# Altium footprint library 1_1123723_3.PcbLib: 1 footprints
Each footprint in its own frame and in the unit in brackets; x right, y up, seen from the top. Pads: shape width x height; smd on the part's side, far side on the other; paste and mask are expansions set on the pad; w line width, h text height; cw(c..) or ccw(c..) is an arc to the next point about the centre after c.
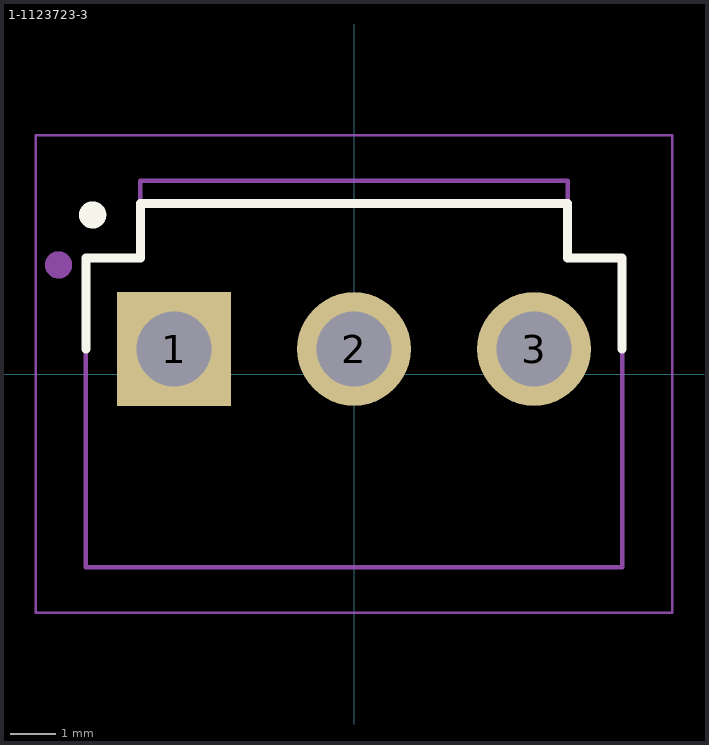
[diagram p0: the footprint, top view; thin cyan lines are the x and y axes]

## 1-1123723-3 [mm] "Economy Power, 3 Pins, Pitch 3,96mm, Plug Header"
height 10.7
pads (3):
  rect 2.5x2.5 hole 1.65: 1(-3.96,0.55)
  round 2.5 hole 1.65: 2(0,0.55) 3(3.96,0.55)
Top Overlay:
  circle w0.3: c-5.75,3.5 r0.15
  lines w0.2: -5.9,0.55 -5.9,2.55 -4.7,2.55 -4.7,3.75 4.7,3.75 4.7,2.55 5.9,2.55 5.9,0.55
Top Comment:
  text ".Comment" at 1,5.55 h1.2
Top Designator:
  text ".Designator" at -0.5,5.55 h1.2
Top Component Outline:
  circle w0.3: c-6.5,2.4 r0.15
  lines w0.1: -4.7,3.75 4.7,3.75 ; -5.9,-4.25 -5.9,2.55 -4.7,2.55 -4.7,4.25 4.7,4.25 4.7,2.55 5.9,2.55 5.9,-4.25 -5.9,-4.25
Top Courtyard (Mech15):
  lines w0.05: -7,-5.25 -7,5.25 7,5.25 7,-5.25 -7,-5.25
  lines w0.1: -0.5,0 0.5,0 ; 0,-0.5 0,0.5
3D body "c-1-1123723-3-ad-3d.stp": height 10.7, standoff -3.7, extent -5.91,-4.25 5.91,4.25